# Altium footprint library MeasurePCB.PcbLib: 20 footprints (part 1 of 2)
Each footprint in its own frame and in the unit in brackets; x right, y up, seen from the top. Pads: shape width x height; smd on the part's side, far side on the other; paste and mask are expansions set on the pad; w line width, h text height; cw(c..) or ccw(c..) is an arc to the next point about the centre after c.
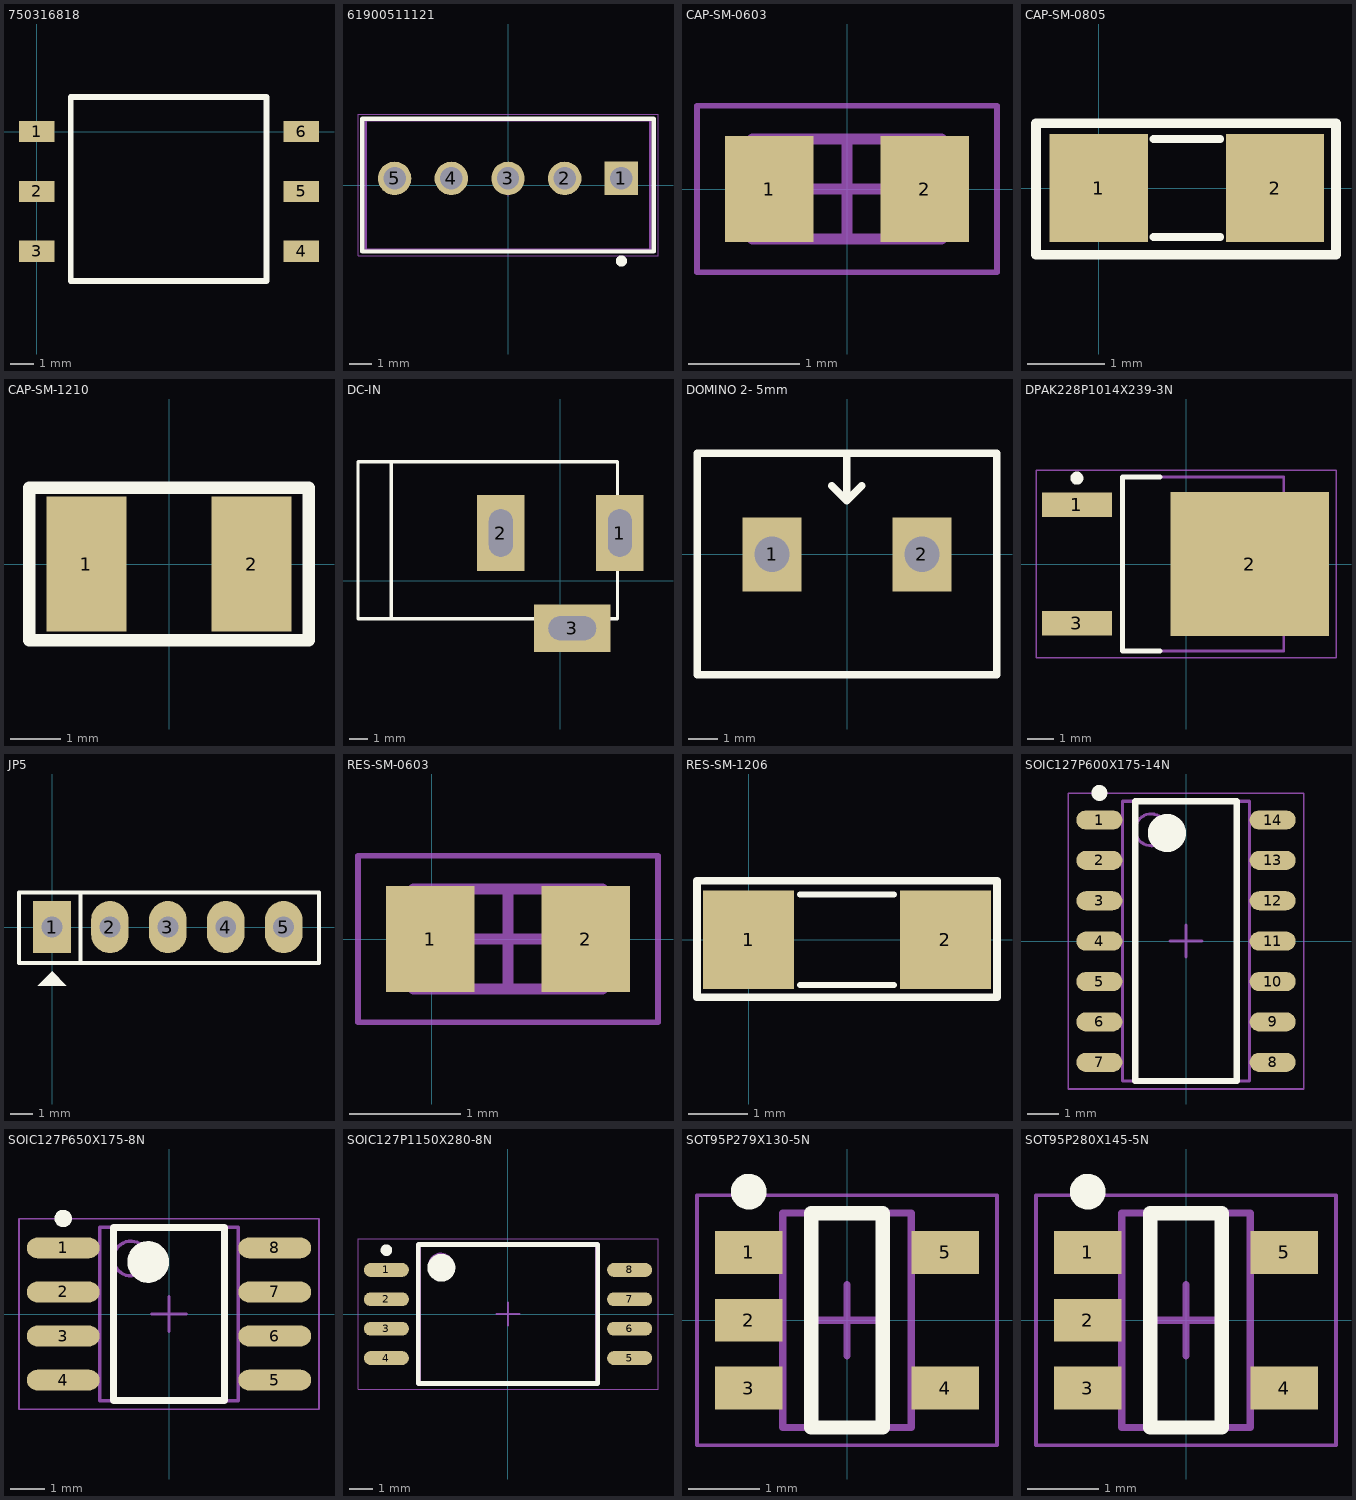
[diagram p0: the footprints below, top view; thin cyan lines are the x and y axes]

## 750316818 [mm]
pads (6):
  rect 1.5x0.9 smd: 1(0,0) 2(0,-2.54) 3(0,-5.08) 4(11.24,-5.08) 5(11.24,-2.54) 6(11.24,0)
Top Overlay:
  lines w0.254: 1.448,-6.35 1.448,1.473 9.754,1.473 9.754,-6.35 1.448,-6.35
3D body: height 5.08, standoff 0, extent 0.876,-6.921 10.351,1.892

## 61900511121 [mm] "2.54mm Male Locking Header, 5p"
height 11.5
pads (5):
  rect 1.5x1.5 hole 1: 1(5.08,0.3)
  round 1.5 hole 1: 2(2.54,0.3) 3(0,0.3) 4(-2.54,0.3) 5(-5.08,0.3)
Top Overlay:
  circle w0.25: c5.08,-3.4 r0.125
  lines w0.2: -6.52,-2.975 -6.52,2.975 6.52,2.975 6.52,-2.975 -6.52,-2.975
Mechanical 13:
  lines w0.1: -6.37,-2.9 6.37,-2.9 6.37,2.9 -6.37,2.9 -6.37,-2.9
Mechanical 15:
  lines w0.05: -0.5,0 0.5,0 ; 0,-0.5 0,0.5 ; -6.72,-3.175 6.72,-3.175 6.72,3.175 -6.72,3.175 -6.72,-3.175
3D body "61900511121.stp": height 11.53, standoff -3.37, extent -6.35,-2.9 6.35,2.9

## CAP-SM-0603 [mm] "SMD Ceramic Capacitor Size 0603"
height 0.6
pads (2):
  rect 0.8x0.95 smd: 1(-0.7,0) 2(0.7,0)
Mechanical 13:
  lines w0.1: -0.85,-0.45 0.85,-0.45 0.85,0.45 -0.85,0.45 -0.85,-0.45
Mechanical 15:
  lines w0.05: -1.35,-0.75 1.35,-0.75 1.35,0.75 -1.35,0.75 -1.35,-0.75
  lines w0.1: -0.45,0 0.45,0 ; 0,-0.45 0,0.45
3D body: height 0.6, standoff 0, extent 0.5,-0.45 0.85,0.45
3D body: height 0.6, standoff 0, extent -0.85,-0.45 -0.5,0.45
3D body: height 0.6, standoff 0, extent -0.5,-0.45 0.5,0.45

## CAP-SM-0805 [mil]
pads (2):
  rect 50x55 smd: 1(0,0) 2(90,0)
Top Overlay:
  lines w4: 28,-25 62,-25 ; 28,25 62,25
  lines w5: -32,-34 -32,33 121,33 121,-34 -32,-34
3D body "0805 SMD Capacitor.step": height 31.39, standoff 0.6, extent 5.64,-24.6 84.37,24.61

## CAP-SM-1210 [mil]
pads (2):
  rect 63x106 smd: 1(-65,0) 2(65,0)
Top Overlay:
  lines w10: -110,-60 110,-60 110,60 -110,60 -110,16.5 -110,-60
3D body "User Library-CAPC3225X13.step": height 51.18, standoff 0, extent -62.99,-49.21 63,49.22

## DC-IN [mil] "Jac DC input"
height 200
pads (3):
  rect 100x160 hole 50 slot 100 at 90 deg: 1(125,100) 2(-125,100)
  rect 160x100 hole 50 slot 100 at 0 deg: 3(25,-100)
Top Overlay:
  lines w7: -355,-80 -355,250 ; -425,-80 120,-80 120,250 -425,250 -425,-80
3D body "SW3dPS-dc range - dc connector[4840.2201].STEP": height 433.67, standoff -137.2, extent -410.35,-105.12 134,269.12

## DOMINO 2- 5mm [mm]
pads (2):
  rect 2x2.5 hole 1.2: 1(-2.54,0) 2(2.54,0)
Top Overlay:
  lines w0.254: -0.521,2.324 -0.013,1.816 ; -0.013,3.378 -0.013,1.816 ; 0.495,2.324 -0.013,1.816 ; -5.08,-4.077 5.08,-4.077 5.08,3.429 -5.08,3.429 -5.08,-4.077
3D body "SW3DPS-HDR1x2-MED-GREEN.STEP": height 10, standoff -4, extent -5,-4.071 5,3.429

## DPAK228P1014X239-3N [mm] "D-PAK, 3-Pads, Body 6.21x6.72mm (max), IPC Medium Density"
height 2.39
pads (3):
  rect 2.7x0.95 smd: 1(-4.2,2.28) 3(-4.2,-2.28)
  rect 6.1x5.55 smd: 2(2.45,0)
Top Overlay:
  circle w0.25: c-4.2,3.305 r0.125
  lines w0.2: -1,-3.35 -2.45,-3.35 -2.45,3.35 -1,3.35
Mechanical 13:
  lines w0.1: -2.45,-3.35 -2.45,3.35 3.77,3.35 3.77,-3.35 -2.45,-3.35
Mechanical 15:
  lines w0.05: -5.775,-3.6 -5.775,3.6 5.775,3.6 5.775,-3.6 -5.775,-3.6
  lines w0.1: -0.5,0 0.5,0 ; 0,-0.5 0,0.5
3D body "DPAK228P1014X239-3N.step": height 2.39, standoff 0, extent -4.785,-3.35 5.355,3.35

## JP5 [mil] "JP5"
height 200
pads (5):
  rect 65x90 hole 36: 1(0,0)
  oval 65x90 hole 36: 2(100,0) 3(200,0) 4(300,0) 5(400,0)
Top Overlay:
  region: 0,-76 -25,-101 25,-101
  lines w7: 49,-60 49,58 ; -57,-62 461,-62 461,60 -57,60 -57,-62
3D body "JP1-5.stp": height 323.43, standoff -117.51, extent -48.03,-53.43 448.03,45

## RES-SM-0603 [mm]
pads (2):
  rect 0.8x0.95 smd: 1(-0.014,0) 2(1.386,0)
Mechanical 13:
  lines w0.1: -0.164,-0.45 -0.164,0.45 1.536,0.45 1.536,-0.45 -0.164,-0.45
Mechanical 15:
  lines w0.05: -0.664,-0.75 -0.664,0.75 2.036,0.75 2.036,-0.75 -0.664,-0.75
  lines w0.1: 0.236,0 1.136,0 ; 0.686,-0.45 0.686,0.45
3D body "User Library-0603 SMD Capacitor.step": height 0.3, standoff 0, extent -0.114,-0.4 1.486,0.4

## RES-SM-1206 [mil]
pads (2):
  rect 60x65 smd: 1(0,0) 2(130,0)
Top Overlay:
  lines w4: 34,-30 96,-30 ; 34,30 96,30
  lines w5: -34,-38 -34,39 164,39 164,-38 -34,-38
3D body "1206 SMD Resistor.step": height 40.05, standoff 0.6, extent 2.01,-31.49 128,31.5

## SOIC127P600X175-14N [mm] "SOIC, 14-Leads, Body 8.65x3.90mm, Pitch 1.27mm, IPC Medium Density"
height 1.75
pads (14):
  oval 1.45x0.6 smd: 1(-2.725,3.81) 2(-2.725,2.54) 3(-2.725,1.27) 4(-2.725,0) 5(-2.725,-1.27) 6(-2.725,-2.54) 7(-2.725,-3.81) 8(2.725,-3.81) 9(2.725,-2.54) 10(2.725,-1.27) 11(2.725,0) 12(2.725,1.27) 13(2.725,2.54) 14(2.725,3.81)
Top Overlay:
  circle w0.25: c-2.725,4.66 r0.125
  circle w0.6: c-0.6,3.4 r0.3
  lines w0.2: -1.6,-4.4 -1.6,4.4 1.6,4.4 1.6,-4.4 -1.6,-4.4
Mechanical 13:
  circle w0.1: c-1.1,3.5 r0.5
  lines w0.1: -2,-4.4 -2,4.4 2,4.4 2,-4.4 -2,-4.4
Mechanical 15:
  lines w0.05: -3.7,-4.65 -3.7,4.65 3.7,4.65 3.7,-4.65 -3.7,-4.65
  lines w0.1: -0.5,0 0.5,0 ; 0,-0.5 0,0.5
3D body "SOIC127P600X175-14N.step": height 1.75, standoff 0, extent -3,-4.4 3,4.4

## SOIC127P650X175-8N [mm] "SOIC, 8-Leads, Body 4.91x3.90mm, Pitch 1.27mm, IPC Medium Density"
height 1.75
pads (8):
  oval 2.1x0.6 smd: 1(-3.05,1.905) 2(-3.05,0.635) 3(-3.05,-0.635) 4(-3.05,-1.905) 5(3.05,-1.905) 6(3.05,-0.635) 7(3.05,0.635) 8(3.05,1.905)
Top Overlay:
  circle w0.25: c-3.05,2.755 r0.125
  circle w0.6: c-0.6,1.5 r0.3
  lines w0.2: -1.6,-2.5 -1.6,2.5 1.6,2.5 1.6,-2.5 -1.6,-2.5
Mechanical 13:
  circle w0.1: c-1.1,1.6 r0.5
  lines w0.1: -2,-2.5 -2,2.5 2,2.5 2,-2.5 -2,-2.5
Mechanical 15:
  lines w0.05: -4.325,-2.75 -4.325,2.75 4.325,2.75 4.325,-2.75 -4.325,-2.75
  lines w0.1: -0.5,0 0.5,0 ; 0,-0.5 0,0.5
3D body "SOIC127P650X175-8N.step": height 1.75, standoff 0, extent -3.247,-2.5 3.247,2.5

## SOIC127P1150X280-8N [mm] "SOIC, 8-Leads, Body 5.85x7.50mm, Pitch 1.27mm, IPC Medium Density"
height 2.8
pads (8):
  oval 1.95x0.6 smd: 1(-5.25,1.905) 2(-5.25,0.635) 3(-5.25,-0.635) 4(-5.25,-1.905) 5(5.25,-1.905) 6(5.25,-0.635) 7(5.25,0.635) 8(5.25,1.905)
Top Overlay:
  circle w0.6: c-2.875,2 r0.3
  circle w0.25: c-5.25,2.755 r0.125
  lines w0.2: -3.875,-3 3.875,-3 3.875,3 -3.875,3 -3.875,-3
Mechanical 13:
  circle w0.1: c-2.9,2.1 r0.5
  lines w0.1: -3.8,-3 3.8,-3 3.8,3 -3.8,3 -3.8,-3
Mechanical 15:
  lines w0.05: -6.475,-3.25 6.475,-3.25 6.475,3.25 -6.475,3.25 -6.475,-3.25
  lines w0.1: -0.5,0 0.5,0 ; 0,-0.5 0,0.5
3D body "SOIC127P1150X280-8N.step": height 2.8, standoff 0, extent -5.75,-3 5.75,3

## SOT95P279X130-5N [mm] "SOT23, 5-Leads, Body 2.85x2.79mm, Pitch 0.95mm, IPC Medium Density"
height 1.3
pads (5):
  rect 0.95x0.6 smd: 1(-1.375,0.95) 2(-1.375,0) 3(-1.375,-0.95) 4(1.375,-0.95) 5(1.375,0.95)
Top Overlay:
  circle w0.25: c-1.375,1.8 r0.125
  lines w0.2: -0.5,-1.5 0.5,-1.5 0.5,1.5 -0.5,1.5 -0.5,-1.5
Mechanical 13:
  lines w0.1: -0.9,-1.5 -0.9,1.5 0.9,1.5 0.9,-1.5 -0.9,-1.5
Mechanical 15:
  lines w0.05: -2.1,-1.75 -2.1,1.75 2.1,1.75 2.1,-1.75 -2.1,-1.75
  lines w0.1: -0.5,0 0.5,0 ; 0,-0.5 0,0.5
3D body "SOT95P279X130-5N.step": height 1.3, standoff 0, extent -1.499,-1.5 1.499,1.5

## SOT95P280X145-5N [mm] "SOT23, 5-Leads, Body 2.88x2.80mm, Pitch 0.95mm, IPC Medium Density"
height 1.45
pads (5):
  rect 0.95x0.6 smd: 1(-1.375,0.95) 2(-1.375,0) 3(-1.375,-0.95) 4(1.375,-0.95) 5(1.375,0.95)
Top Overlay:
  circle w0.25: c-1.375,1.8 r0.125
  lines w0.2: -0.5,-1.5 0.5,-1.5 0.5,1.5 -0.5,1.5 -0.5,-1.5
Mechanical 13:
  lines w0.1: -0.9,-1.5 -0.9,1.5 0.9,1.5 0.9,-1.5 -0.9,-1.5
Mechanical 15:
  lines w0.05: -2.1,-1.75 -2.1,1.75 2.1,1.75 2.1,-1.75 -2.1,-1.75
  lines w0.1: -0.5,0 0.5,0 ; 0,-0.5 0,0.5
3D body "SOT95P280X145-5N.step": height 1.45, standoff 0, extent -1.5,-1.5 1.5,1.5